# Altium footprint library NRF24L01.PcbLib: 1 footprints
Each footprint in its own frame and in the unit in brackets; x right, y up, seen from the top. Pads: shape width x height; smd on the part's side, far side on the other; paste and mask are expansions set on the pad; w line width, h text height; cw(c..) or ccw(c..) is an arc to the next point about the centre after c.
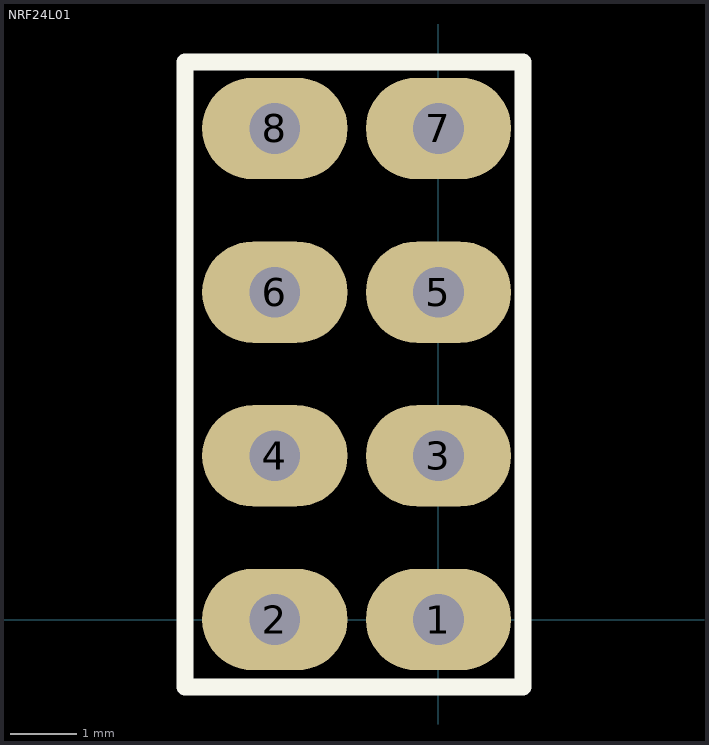
[diagram p0: the footprint, top view; thin cyan lines are the x and y axes]

## NRF24L01 [mil]
pads (8):
  oval 86x60 hole 30: 1(0,0) 2(-96.85,0) 3(0,96.85) 4(-96.85,96.85) 5(0,193.7) 6(-96.85,193.7) 7(0,290.55) 8(-96.85,290.55)
Top Overlay:
  lines w10: -150,-40 50,-40 50,330 -150,330 -150,-40
3D body "NRF24l01_with_antenna.STEP": height 3679.07, standoff -206.3, extent -2826.3,-160.19 87.09,440.2
3D body: height 10, standoff 0, extent -350,250 -350,250
3D body: height 10, standoff 0, extent -350,250 -350,250